# EAGLE library part LP5521 (library ERIC)
LP5521ProgrammableThree-Channel LEDDriver
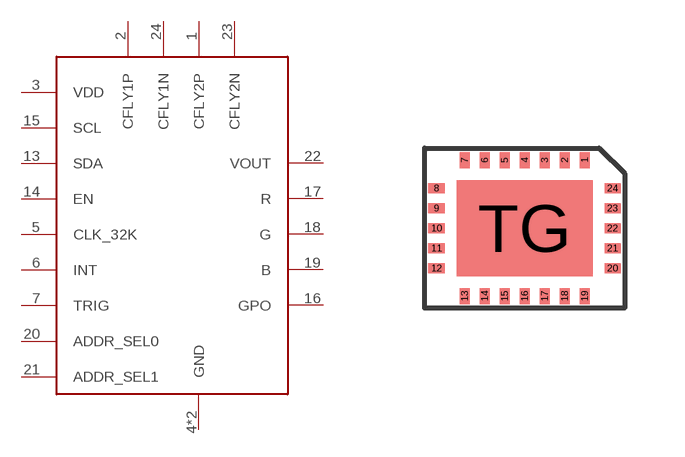
[diagram p32: symbol with the pads of WQFN-24; footprint WQFN-24]

Designator prefix -

## LP5521  [WQFN-24]
1  CFLY2P
2  CFLY1P
3  VDD
4  GND
5  CLK_32K
6  INT
7  TRIG
13  SDA
14  EN
15  SCL
16  GPO
17  R
18  G
19  B
20  ADDR_SEL0
21  ADDR_SEL1
22  VOUT
23  CFLY2N
24  CFLY1N
TG  GND

## Footprint WQFN-24 (pad centres in mm)
Bumped WQFN-24 Package (5 x 4 x 0.8 mm, 0.5 mm pitch) 24 pad QFN. Similar to 20QFN, but with 24 pads and 4x5 mm instead of 4x4 mm http://www.ti.com/lit/ml/mpqs006/mpqs006.pdf NJA0024A
smd 0.25 x 0.4: 1 1.5,1.7; 2 1,1.7; 3 0.5,1.7; 4 0,1.7; 5 -0.5,1.7; 6 -1,1.7; 7 -1.5,1.7; 13 -1.5,-1.7; 14 -1,-1.7; 15 -0.5,-1.7; 16 0,-1.7; 17 0.5,-1.7; 18 1,-1.7; 19 1.5,-1.7
smd 0.4 x 0.25: 8 -2.2,1; 9 -2.2,0.5; 10 -2.2,0; 11 -2.2,-0.5; 12 -2.2,-1; 20 2.2,-1; 21 2.2,-0.5; 22 2.2,0; 23 2.2,0.5; 24 2.2,1
smd 3.4 x 2.4: TG 0,0